# Altium footprint library 2021-03-09_20-08-38.PcbLib: 1 footprints
Each footprint in its own frame and in the unit in brackets; x right, y up, seen from the top. Pads: shape width x height; smd on the part's side, far side on the other; paste and mask are expansions set on the pad; w line width, h text height; cw(c..) or ccw(c..) is an arc to the next point about the centre after c.
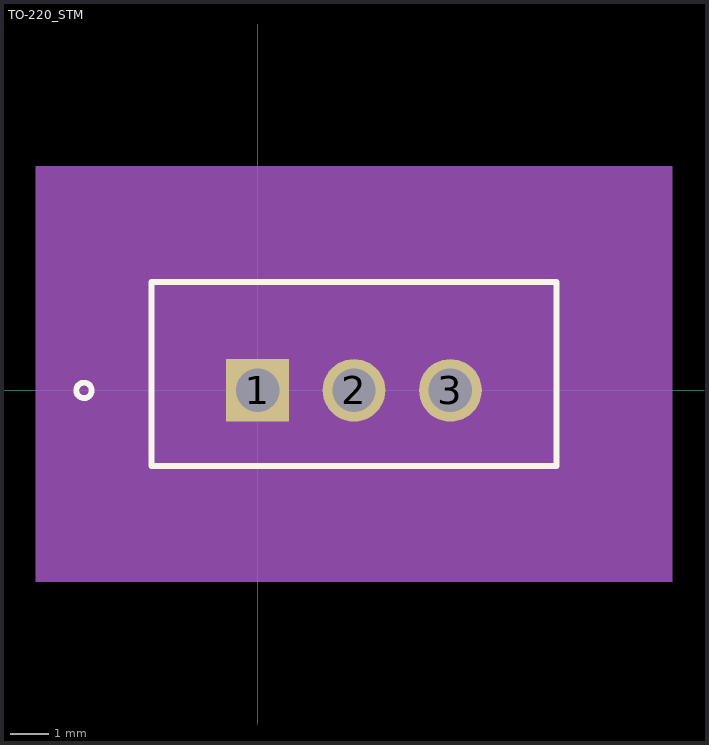
[diagram p0: the footprint, top view; thin cyan lines are the x and y axes]

## TO-220_STM [mil]
pads (3):
  rect 65x65 hole 45: 1(0,0)
  round 65 hole 45: 2(100,0) 3(200,0)
Top Overlay:
  circle w6: c-180,0 r8
  lines w6: -110,-78.5 -110,112.5 310,112.5 310,-78.5 -110,-78.5
Mechanical 5:
  region: -230,232.5 430,232.5 430,-198.5 -230,-198.5
Mechanical 7:
  lines w1: -170,-73.5 -105,-73.5 ; -170,107.5 -105,107.5 ; -105,17 -105,172.5 ; -50,-123.5 0,-123.5 ; 0,-138.5 0,0 ; 100,-138.5 100,0 ; 150,-123.5 100,-123.5 ; 305,17 305,172.5 ; -155,-73.5 -150,-63.5 -160,-63.5 -155,-73.5 ; -155,-73.5 -155,107.5 ; -155,107.5 -150,97.5 -160,97.5 -155,107.5 ; -105,157.5 -95,152.5 -95,162.5 -105,157.5 ; -105,157.5 305,157.5 ; 0,-123.5 -10,-128.5 -10,-118.5 0,-123.5 ; 100,-123.5 110,-128.5 110,-118.5 100,-123.5 ; 305,157.5 295,152.5 295,162.5 305,157.5
  text "0.1in/2.54mm" at -25,-168.5 h25
  text "0.181in/4.597mm" at -362.5,4.5 h25
  text "0.41in/10.414mm" at 6.25,177.5 h25
  text "Alt 2 Padstyle: OX90Y60D30P" at -237.5,-453.5 h50
  text "Alt 1 Padstyle: OX60Y90D30P" at -237.5,-393.5 h50
  text "Pin 1 Padstyle: SX65Y65D45P" at -237.5,-333.5 h50
  text "Default Padstyle: EX65Y65D45P" at -262.5,-273.5 h50
Mechanical 13:
  circle w0: c-85,0 r8
  lines w1: -105,-73.5 -105,107.5 305,107.5 305,-73.5 -105,-73.5
  lines w6: -10,0 10,0 ; 0,-10 0,10
Mechanical 15:
  region: 315,-83.5 -115,-83.5 -115,117.5 315,117.5
  lines w6: -115,-83.5 315,-83.5 315,117.5 -115,117.5 -115,-83.5
3D body: height 10, standoff 0, extent 0,0 10,10